# Altium schematic symbol library 87227-8.SchLib: 1 symbol
Pins are listed as number, name and electrical type; pins without a type are passive.

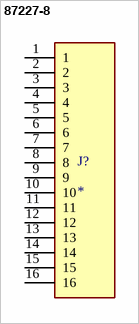
[diagram p0: symbol 87227-8]

## 87227-8
designator J?
MF: {'manufacturer': u'TE Connectivity'}; MP: 87227-8; Package: None; Price: None; Value: *; Availability: Unavailable
footprint TE_87227-8
pins: 1, 2, 3, 4, 5, 6, 7, 8, 9, 10, 11, 12, 13, 14, 15, 16